# Altium schematic symbol library CN_5x25P.SchLib: 1 symbol
Pins are listed as number, name and electrical type; pins without a type are passive.

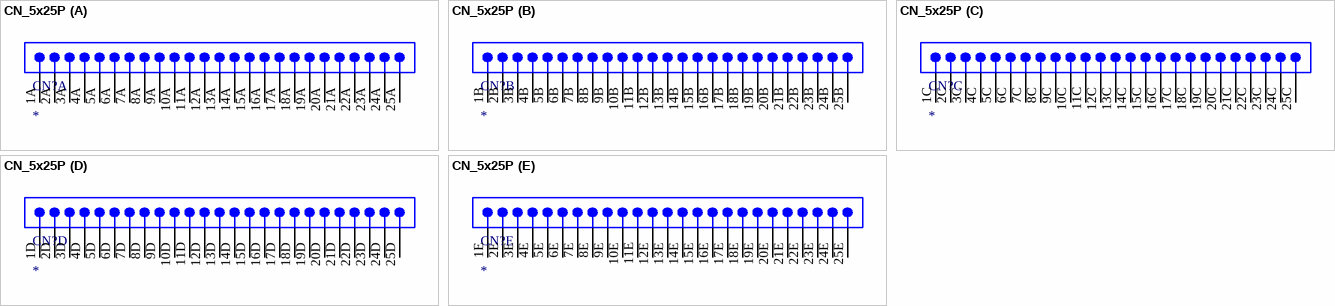
[diagram p0: symbol CN_5x25P]

## CN_5x25P
designator CN?
part A pins: 1A, 2A, 3A, 4A, 5A, 6A, 7A, 8A, 9A, 10A, 11A, 12A, 13A, 14A, 15A, 16A, 17A, 18A, 19A, 20A, 21A, 22A, 23A, 24A, 25A
part B pins: 1B, 2B, 3B, 4B, 5B, 6B, 7B, 8B, 9B, 10B, 11B, 12B, 13B, 14B, 15B, 16B, 17B, 18B, 19B, 20B, 21B, 22B, 23B, 24B, 25B
part C pins: 1C, 2C, 3C, 4C, 5C, 6C, 7C, 8C, 9C, 10C, 11C, 12C, 13C, 14C, 15C, 16C, 17C, 18C, 19C, 20C, 21C, 22C, 23C, 24C, 25C
part D pins: 1D, 2D, 3D, 4D, 5D, 6D, 7D, 8D, 9D, 10D, 11D, 12D, 13D, 14D, 15D, 16D, 17D, 18D, 19D, 20D, 21D, 22D, 23D, 24D, 25D
part E pins: 1E, 2E, 3E, 4E, 5E, 6E, 7E, 8E, 9E, 10E, 11E, 12E, 13E, 14E, 15E, 16E, 17E, 18E, 19E, 20E, 21E, 22E, 23E, 24E, 25E